# EAGLE library part AN7194K/Z (library Audio-Power-amlifier V.2.0)
The AN7194K and AN7194Z are single power supply, BTL, audio class-H power amplifier ICs. A class-H power amplifier can be made up when this ICs are used in combination with the AN7077Z which is separately market- available, and it is possible to make a low consumption power system. Also, the AN7194K and AN7194Z are incorporating various protection circuits, so that those ICs contribute to the high reliability design of set.
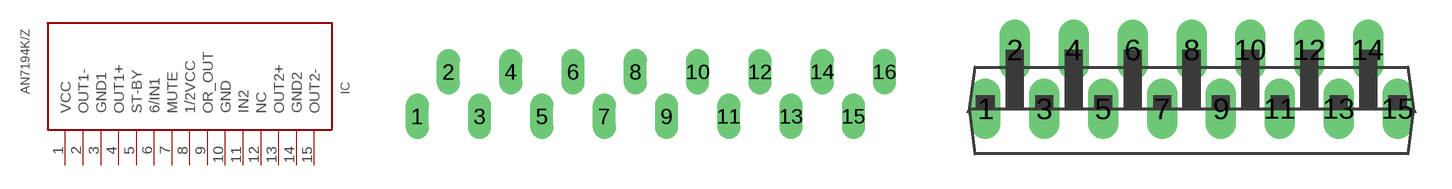
[diagram p144: symbol with the pads of HZIP016-P-0665B-1,788; footprints HZIP016-P-0665B-1,788, HZIP015-P-0745A-1,27]

Designator prefix IC

## AN7194K/ZAN7194K  [HZIP016-P-0665B-1,788]
1  VCC  pwr
2  OUT1-  out
3  GND1  pwr
4  OUT1+  out
5  ST-BY  in
6  6/IN1  in
7  MUTE  in
8  1/2VCC  pwr
9  OR_OUT  out
10  GND  pwr
11  IN2  in
12  NC  nc
13  OUT2+  out
14  GND2  pwr
15  OUT2-  out

## AN7194K/ZAN7194Z  [HZIP015-P-0745A-1,27]
Pads as for HZIP016-P-0665B-1,788

## Footprint HZIP016-P-0665B-1,788 (pad centres in mm)
drill 0.8 long: 1 -13.334,0; 2 -11.556,2.539; 3 -9.778,-0.001; 4 -8,2.539; 5 -6.222,-0.001; 6 -4.444,2.539; 7 -2.666,0; 8 -0.888,2.539; 9 0.889,-0.001; 10 2.668,2.538; 11 4.446,0; 12 6.224,2.539; 13 8,-0.001; 14 9.78,2.539; 15 11.557,-0.001; 16 13.337,2.539

## Footprint HZIP015-P-0745A-1,27 (pad centres in mm)
drill 0.8 long: 1 -8.89,-1.27; 2 -7.62,1.27; 3 -6.35,-1.27; 4 -5.08,1.27; 5 -3.81,-1.27; 6 -2.54,1.27; 7 -1.27,-1.27; 8 0,1.27; 9 1.27,-1.27; 10 2.54,1.27; 11 3.81,-1.27; 12 5.08,1.27; 13 6.35,-1.27; 14 7.62,1.27; 15 8.89,-1.27